# EAGLE library part PIC10F222 (library radish)
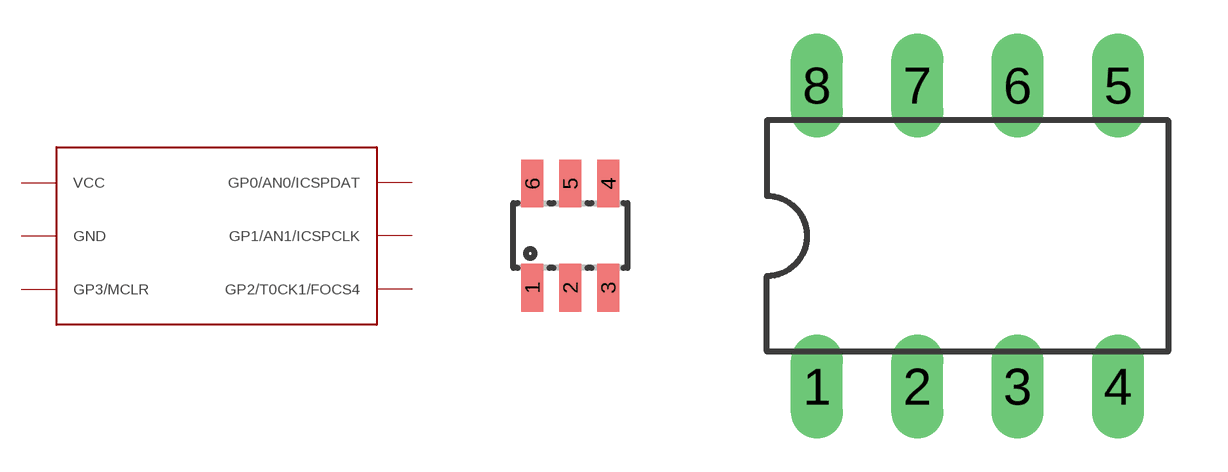
[diagram p2: symbol with the pads of SOT23-6L; footprints SOT23-6L, DIL08]

Designator prefix PIC

## PIC10F222I/OT  [SOT23-6L]
1  GP0/AN0/ICSPDAT
2  GND  pwr
3  GP1/AN1/ICSPCLK
4  GP2/T0CK1/FOCS4
5  VCC  in
6  GP3/MCLR  in

## PIC10F222I/P  [DIL08]
2  VCC  in
3  GP2/T0CK1/FOCS4
4  GP1/AN1/ICSPCLK
5  GP0/AN0/ICSPDAT
7  GND  pwr
8  GP3/MCLR  in

## Footprint SOT23-6L (pad centres in mm)
Small Outline Transistor
smd 0.55 x 1.2: 1 -0.95,-1.3; 2 0,-1.3; 3 0.95,-1.3; 4 0.95,1.3; 5 0,1.3; 6 -0.95,1.3

## Footprint DIL08 (pad centres in mm)
Dual In Line Package
drill 0.813 long: 1 -3.81,-3.81; 2 -1.27,-3.81; 3 1.27,-3.81; 4 3.81,-3.81; 5 3.81,3.81; 6 1.27,3.81; 7 -1.27,3.81; 8 -3.81,3.81